# Altium footprint library solpad.PCBLIB: 8 footprints
Each footprint in its own frame and in the unit in brackets; x right, y up, seen from the top. Pads: shape width x height; smd on the part's side, far side on the other; paste and mask are expansions set on the pad; w line width, h text height; cw(c..) or ccw(c..) is an arc to the next point about the centre after c.
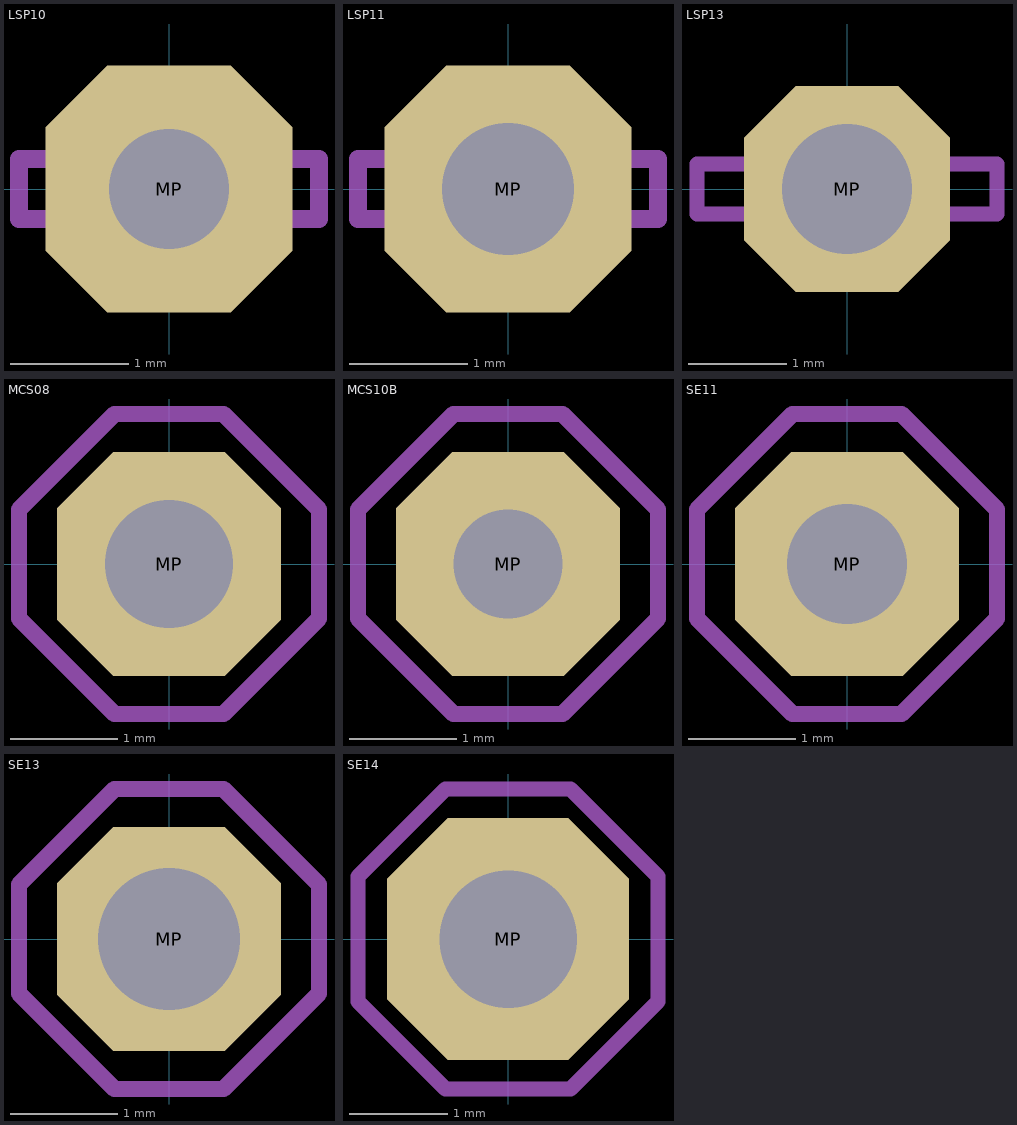
[diagram p0: the footprints below, top view; thin cyan lines are the x and y axes]

## LSP10 [mil]
pads (1):
  oct 82.3x82.3 hole 40: MP(0,0)
Mechanical 2:
  lines w6: -45,-10 -50,-10 -50,10 -45,10 ; 45,-10 50,-10 50,10 45,10
Mechanical 18:
  lines w6: -45,-10 -25,-10 ; -45,10 -25,10 ; 45,-10 25,-10 ; 45,10 25,10 ; -25,-10 -25,10 ; -25,-10 25,-10 ; -25,10 25,10 ; 25,-10 25,10

## LSP11 [mil]
pads (1):
  oct 82.3x82.3 hole 44: MP(0,0)
Mechanical 2:
  lines w6: -45,-10 -50,-10 -50,10 -45,10 ; 45,-10 50,-10 50,10 45,10
Mechanical 18:
  lines w6: -45,-10 -25,-10 ; -45,10 -25,10 ; 45,-10 25,-10 ; 45,10 25,10 ; -25,-10 -25,10 ; -25,-10 25,-10 ; -25,10 25,10 ; 25,-10 25,10

## LSP13 [mil]
pads (1):
  oct 82.3x82.3 hole 52: MP(0,0)
Mechanical 2:
  lines w6: -45,-10 -60,-10 -60,10 -45,10 ; 45,-10 60,-10 60,10 45,10
Mechanical 18:
  lines w6: -45,-10 -25,-10 ; -45,10 -25,10 ; 45,-10 25,-10 ; 45,10 25,10 ; -25,-10 -25,10 ; -25,-10 25,-10 ; -25,10 25,10 ; 25,-10 25,10

## MCS08 [mil]
pads (1):
  oct 82.3x82.3 hole 47: MP(0,0)
Mechanical 2:
  lines w6: -55,-20 -55,20 -20,55 20,55 55,20 55,-20 20,-55 -20,-55 -55,-20
Mechanical 18:
  circle w6: c0,0 r30
  circle w10: c0,0 r15

## MCS10B [mil]
pads (1):
  oct 82.3x82.3 hole 40: MP(0,0)
Mechanical 2:
  lines w6: -55,-20 -55,20 -20,55 20,55 55,20 55,-20 20,-55 -20,-55 -55,-20
Mechanical 18:
  circle w6: c0,0 r30
  circle w10: c0,0 r15

## SE11 [mil]
pads (1):
  oct 82.3x82.3 hole 44: MP(0,0)
Mechanical 2:
  lines w6: -55,-20 -55,20 -20,55 20,55 55,20 55,-20 20,-55 -20,-55 -55,-20
Mechanical 18:
  circle w6: c0,0 r30
  circle w10: c0,0 r15

## SE13 [mil]
pads (1):
  oct 82.3x82.3 hole 52: MP(0,0)
Mechanical 2:
  lines w6: -55,-20 -55,20 -20,55 20,55 55,20 55,-20 20,-55 -20,-55 -55,-20
Mechanical 18:
  circle w6: c0,0 r30
  circle w10: c0,0 r15

## SE14 [mil]
pads (1):
  oct 96.82x96.82 hole 55: MP(0,0)
Mechanical 2:
  lines w6: -60,-25 -60,25 -25,60 25,60 60,25 60,-25 25,-60 -25,-60 -60,-25
Mechanical 18:
  circle w6: c0,0 r30
  circle w10: c0,0 r15